# Altium footprint library SOP_65P_M.PcbLib: 39 footprints (part 3 of 3)
Each footprint in its own frame and in the unit in brackets; x right, y up, seen from the top. Pads: shape width x height; smd on the part's side, far side on the other; paste and mask are expansions set on the pad; w line width, h text height; cw(c..) or ccw(c..) is an arc to the next point about the centre after c.
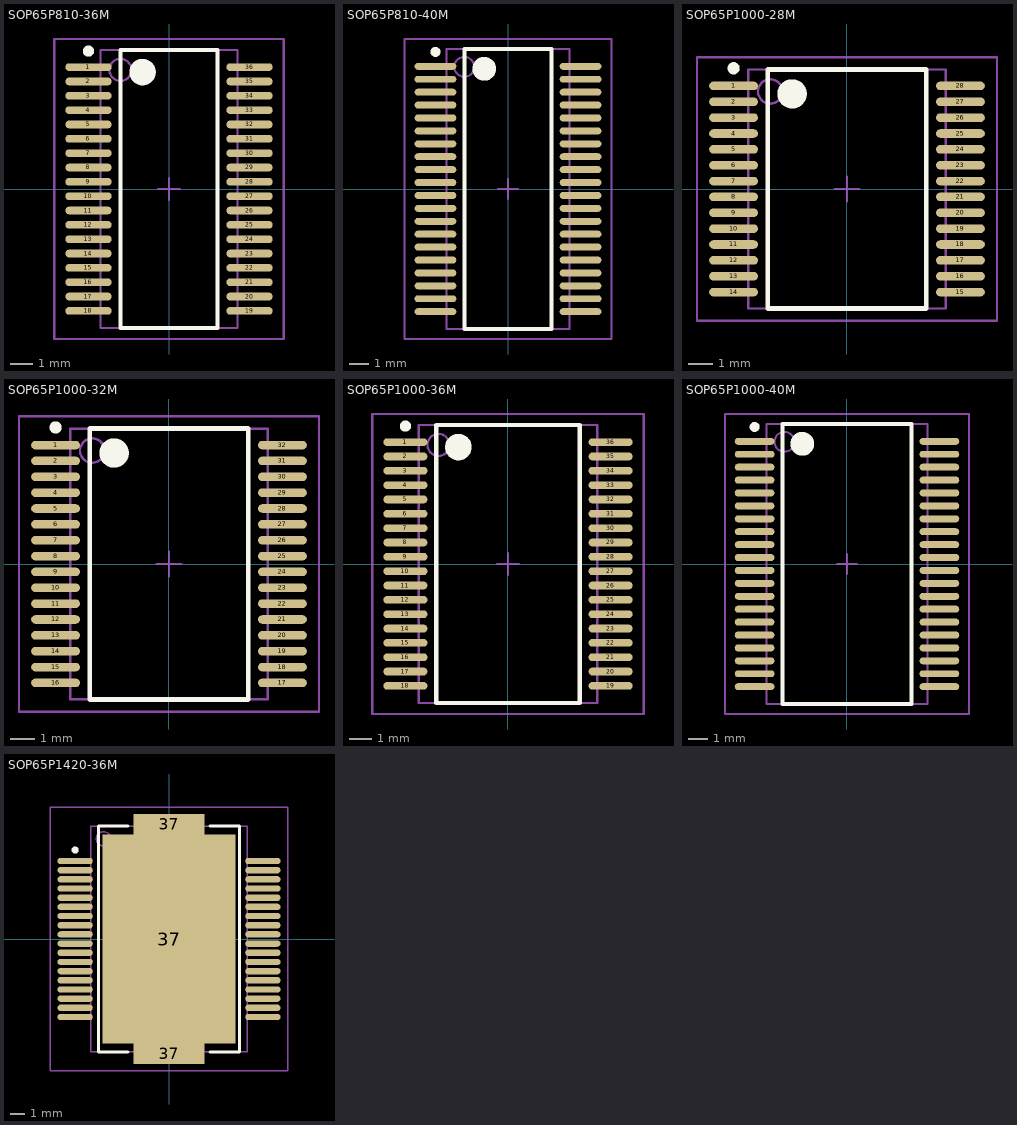
[diagram p2: the footprints below, top view; thin cyan lines are the x and y axes]

## SOP65P810-36M [mm] "SOP, 36-Leads, Body 12.5x6.1mm, Pitch 0.65mm, IPC Low Density"
height 2
pads (36):
  oval 2.1x0.35 smd: 1(-3.65,5.525) 2(-3.65,4.875) 3(-3.65,4.225) 4(-3.65,3.575) 5(-3.65,2.925) 6(-3.65,2.275) 7(-3.65,1.625) 8(-3.65,0.975) 9(-3.65,0.325) 10(-3.65,-0.325) 11(-3.65,-0.975) 12(-3.65,-1.625) 13(-3.65,-2.275) 14(-3.65,-2.925) 15(-3.65,-3.575) 16(-3.65,-4.225) 17(-3.65,-4.875) 18(-3.65,-5.525) 19(3.65,-5.525) 20(3.65,-4.875) 21(3.65,-4.225) 22(3.65,-3.575) 23(3.65,-2.925) 24(3.65,-2.275) 25(3.65,-1.625) 26(3.65,-0.975) 27(3.65,-0.325) 28(3.65,0.325) 29(3.65,0.975) 30(3.65,1.625) 31(3.65,2.275) 32(3.65,2.925) 33(3.65,3.575) 34(3.65,4.225) 35(3.65,4.875) 36(3.65,5.525)
Top Overlay:
  circle w0.25: c-3.65,6.25 r0.125
  circle w0.6: c-1.2,5.3 r0.3
  lines w0.2: -2.2,-6.3 -2.2,6.3 2.2,6.3 2.2,-6.3 -2.2,-6.3
Mechanical 13:
  circle w0.1: c-2.2,5.4 r0.5
  lines w0.1: -3.1,-6.3 -3.1,6.3 3.1,6.3 3.1,-6.3 -3.1,-6.3
Mechanical 15:
  lines w0.1: -0.5,0 0.5,0 ; 0,-0.5 0,0.5 ; -5.2,-6.8 -5.2,6.8 5.2,6.8 5.2,-6.8 -5.2,-6.8
3D body: height 2, standoff 0, extent -3.1,-6.3 3.1,6.3

## SOP65P810-40M [mm] "SOP, 40-Leads, Body 14x6.1mm, Pitch 0.65mm, IPC Low Density"
height 2
pads (40):
  oval 2.1x0.35 smd: 1(-3.65,6.175) 2(-3.65,5.525) 3(-3.65,4.875) 4(-3.65,4.225) 5(-3.65,3.575) 6(-3.65,2.925) 7(-3.65,2.275) 8(-3.65,1.625) 9(-3.65,0.975) 10(-3.65,0.325) 11(-3.65,-0.325) 12(-3.65,-0.975) 13(-3.65,-1.625) 14(-3.65,-2.275) 15(-3.65,-2.925) 16(-3.65,-3.575) 17(-3.65,-4.225) 18(-3.65,-4.875) 19(-3.65,-5.525) 20(-3.65,-6.175) 21(3.65,-6.175) 22(3.65,-5.525) 23(3.65,-4.875) 24(3.65,-4.225) 25(3.65,-3.575) 26(3.65,-2.925) 27(3.65,-2.275) 28(3.65,-1.625) 29(3.65,-0.975) 30(3.65,-0.325) 31(3.65,0.325) 32(3.65,0.975) 33(3.65,1.625) 34(3.65,2.275) 35(3.65,2.925) 36(3.65,3.575) 37(3.65,4.225) 38(3.65,4.875) 39(3.65,5.525) 40(3.65,6.175)
Top Overlay:
  circle w0.25: c-3.65,6.9 r0.125
  circle w0.6: c-1.2,6.05 r0.3
  lines w0.2: -2.2,-7.05 -2.2,7.05 2.2,7.05 2.2,-7.05 -2.2,-7.05
Mechanical 13:
  circle w0.1: c-2.2,6.15 r0.5
  lines w0.1: -3.1,-7.05 -3.1,7.05 3.1,7.05 3.1,-7.05 -3.1,-7.05
Mechanical 15:
  lines w0.1: -0.5,0 0.5,0 ; 0,-0.5 0,0.5 ; -5.2,-7.55 -5.2,7.55 5.2,7.55 5.2,-7.55 -5.2,-7.55
3D body: height 2, standoff 0, extent -3.1,-7.05 3.1,7.05

## SOP65P1000-28M [mm] "SOP, 28-Leads, Body 9.7x8mm, Pitch 0.65mm, IPC Low Density"
height 2
pads (28):
  oval 2x0.35 smd: 1(-4.65,4.225) 2(-4.65,3.575) 3(-4.65,2.925) 4(-4.65,2.275) 5(-4.65,1.625) 6(-4.65,0.975) 7(-4.65,0.325) 8(-4.65,-0.325) 9(-4.65,-0.975) 10(-4.65,-1.625) 11(-4.65,-2.275) 12(-4.65,-2.925) 13(-4.65,-3.575) 14(-4.65,-4.225) 15(4.65,-4.225) 16(4.65,-3.575) 17(4.65,-2.925) 18(4.65,-2.275) 19(4.65,-1.625) 20(4.65,-0.975) 21(4.65,-0.325) 22(4.65,0.325) 23(4.65,0.975) 24(4.65,1.625) 25(4.65,2.275) 26(4.65,2.925) 27(4.65,3.575) 28(4.65,4.225)
Top Overlay:
  circle w0.25: c-4.65,4.95 r0.125
  circle w0.6: c-2.25,3.9 r0.3
  lines w0.2: -3.25,-4.9 -3.25,4.9 3.25,4.9 3.25,-4.9 -3.25,-4.9
Mechanical 13:
  circle w0.1: c-3.15,4 r0.5
  lines w0.1: -4.05,-4.9 -4.05,4.9 4.05,4.9 4.05,-4.9 -4.05,-4.9
Mechanical 15:
  lines w0.1: -0.5,0 0.5,0 ; 0,-0.5 0,0.5 ; -6.15,-5.4 -6.15,5.4 6.15,5.4 6.15,-5.4 -6.15,-5.4
3D body: height 2, standoff 0, extent -4.05,-4.9 4.05,4.9

## SOP65P1000-32M [mm] "SOP, 32-Leads, Body 11x8mm, Pitch 0.65mm, IPC Low Density"
height 2
pads (32):
  oval 2x0.35 smd: 1(-4.65,4.875) 2(-4.65,4.225) 3(-4.65,3.575) 4(-4.65,2.925) 5(-4.65,2.275) 6(-4.65,1.625) 7(-4.65,0.975) 8(-4.65,0.325) 9(-4.65,-0.325) 10(-4.65,-0.975) 11(-4.65,-1.625) 12(-4.65,-2.275) 13(-4.65,-2.925) 14(-4.65,-3.575) 15(-4.65,-4.225) 16(-4.65,-4.875) 17(4.65,-4.875) 18(4.65,-4.225) 19(4.65,-3.575) 20(4.65,-2.925) 21(4.65,-2.275) 22(4.65,-1.625) 23(4.65,-0.975) 24(4.65,-0.325) 25(4.65,0.325) 26(4.65,0.975) 27(4.65,1.625) 28(4.65,2.275) 29(4.65,2.925) 30(4.65,3.575) 31(4.65,4.225) 32(4.65,4.875)
Top Overlay:
  circle w0.25: c-4.65,5.6 r0.125
  circle w0.6: c-2.25,4.55 r0.3
  lines w0.2: -3.25,-5.55 -3.25,5.55 3.25,5.55 3.25,-5.55 -3.25,-5.55
Mechanical 13:
  circle w0.1: c-3.15,4.65 r0.5
  lines w0.1: -4.05,-5.55 -4.05,5.55 4.05,5.55 4.05,-5.55 -4.05,-5.55
Mechanical 15:
  lines w0.1: -0.5,0 0.5,0 ; 0,-0.5 0,0.5 ; -6.15,-6.05 -6.15,6.05 6.15,6.05 6.15,-6.05 -6.15,-6.05
3D body: height 2, standoff 0, extent -4.05,-5.55 4.05,5.55

## SOP65P1000-36M [mm] "SOP, 36-Leads, Body 12.5x8mm, Pitch 0.65mm, IPC Low Density"
height 2
pads (36):
  oval 2x0.35 smd: 1(-4.65,5.525) 2(-4.65,4.875) 3(-4.65,4.225) 4(-4.65,3.575) 5(-4.65,2.925) 6(-4.65,2.275) 7(-4.65,1.625) 8(-4.65,0.975) 9(-4.65,0.325) 10(-4.65,-0.325) 11(-4.65,-0.975) 12(-4.65,-1.625) 13(-4.65,-2.275) 14(-4.65,-2.925) 15(-4.65,-3.575) 16(-4.65,-4.225) 17(-4.65,-4.875) 18(-4.65,-5.525) 19(4.65,-5.525) 20(4.65,-4.875) 21(4.65,-4.225) 22(4.65,-3.575) 23(4.65,-2.925) 24(4.65,-2.275) 25(4.65,-1.625) 26(4.65,-0.975) 27(4.65,-0.325) 28(4.65,0.325) 29(4.65,0.975) 30(4.65,1.625) 31(4.65,2.275) 32(4.65,2.925) 33(4.65,3.575) 34(4.65,4.225) 35(4.65,4.875) 36(4.65,5.525)
Top Overlay:
  circle w0.6: c-2.25,5.3 r0.3
  circle w0.25: c-4.65,6.25 r0.125
  lines w0.2: -3.25,-6.3 3.25,-6.3 3.25,6.3 -3.25,6.3 -3.25,-6.3
Mechanical 13:
  circle w0.1: c-3.15,5.4 r0.5
  lines w0.1: -4.05,-6.3 4.05,-6.3 4.05,6.3 -4.05,6.3 -4.05,-6.3
Mechanical 15:
  lines w0.1: -0.5,0 0.5,0 ; 0,-0.5 0,0.5 ; -6.15,-6.8 6.15,-6.8 6.15,6.8 -6.15,6.8 -6.15,-6.8
3D body: height 2, standoff 0, extent -4.05,-6.3 4.05,6.3

## SOP65P1000-40M [mm] "SOP, 40-Leads, Body 14x8mm, Pitch 0.65mm, IPC Low Density"
height 2
pads (40):
  oval 2x0.35 smd: 1(-4.65,6.175) 2(-4.65,5.525) 3(-4.65,4.875) 4(-4.65,4.225) 5(-4.65,3.575) 6(-4.65,2.925) 7(-4.65,2.275) 8(-4.65,1.625) 9(-4.65,0.975) 10(-4.65,0.325) 11(-4.65,-0.325) 12(-4.65,-0.975) 13(-4.65,-1.625) 14(-4.65,-2.275) 15(-4.65,-2.925) 16(-4.65,-3.575) 17(-4.65,-4.225) 18(-4.65,-4.875) 19(-4.65,-5.525) 20(-4.65,-6.175) 21(4.65,-6.175) 22(4.65,-5.525) 23(4.65,-4.875) 24(4.65,-4.225) 25(4.65,-3.575) 26(4.65,-2.925) 27(4.65,-2.275) 28(4.65,-1.625) 29(4.65,-0.975) 30(4.65,-0.325) 31(4.65,0.325) 32(4.65,0.975) 33(4.65,1.625) 34(4.65,2.275) 35(4.65,2.925) 36(4.65,3.575) 37(4.65,4.225) 38(4.65,4.875) 39(4.65,5.525) 40(4.65,6.175)
Top Overlay:
  circle w0.6: c-2.25,6.05 r0.3
  circle w0.25: c-4.65,6.9 r0.125
  lines w0.2: -3.25,-7.05 3.25,-7.05 3.25,7.05 -3.25,7.05 -3.25,-7.05
Mechanical 13:
  circle w0.1: c-3.15,6.15 r0.5
  lines w0.1: -4.05,-7.05 4.05,-7.05 4.05,7.05 -4.05,7.05 -4.05,-7.05
Mechanical 15:
  lines w0.1: -0.5,0 0.5,0 ; 0,-0.5 0,0.5 ; -6.15,-7.55 6.15,-7.55 6.15,7.55 -6.15,7.55 -6.15,-7.55
3D body: height 2, standoff 0, extent -4.05,-7.05 4.05,7.05

## SOP65P1420-36M [mm] "SOP, 36-Leads, Body 15.9x11mm, Pitch 0.65mm, Slug, IPC Low Density"
height 3.6
pads (39):
  oval 2.5x0.45 smd: 1(-6.65,5.525) 2(-6.65,4.875) 3(-6.65,4.225) 4(-6.65,3.575) 5(-6.65,2.925) 6(-6.65,2.275) 7(-6.65,1.625) 8(-6.65,0.975) 9(-6.65,0.325) 10(-6.65,-0.325) 11(-6.65,-0.975) 12(-6.65,-1.625) 13(-6.65,-2.275) 14(-6.65,-2.925) 15(-6.65,-3.575) 16(-6.65,-4.225) 17(-6.65,-4.875) 18(-6.65,-5.525) 19(6.65,-5.525) 20(6.65,-4.875) 21(6.65,-4.225) 22(6.65,-3.575) 23(6.65,-2.925) 24(6.65,-2.275) 25(6.65,-1.625) 26(6.65,-0.975) 27(6.65,-0.325) 28(6.65,0.325) 29(6.65,0.975) 30(6.65,1.625) 31(6.65,2.275) 32(6.65,2.925) 33(6.65,3.575) 34(6.65,4.225) 35(6.65,4.875) 36(6.65,5.525)
  rect 5x1.45 smd: 37(0,-8.125) 37(0,8.125)
  rect 9.4x14.8 smd: 37(0,0)
Top Overlay:
  circle w0.25: c-6.65,6.3 r0.125
  lines w0.2: -2.9,-8 -5,-8 -5,8 -2.9,8 ; 2.9,-8 5,-8 5,8 2.9,8
Mechanical 13:
  circle w0.1: c-4.65,7.1 r0.5
  lines w0.1: -5.55,-8 5.55,-8 5.55,8 -5.55,8 -5.55,-8
Mechanical 15:
  lines w0.1: -0.5,0 0.5,0 ; 0,-0.5 0,0.5 ; -8.4,-9.35 8.4,-9.35 8.4,9.35 -8.4,9.35 -8.4,-9.35
3D body: height 3.6, standoff 0, extent -5.55,-8 5.55,8